# Altium integrated library diodo S1M.IntLib: 1 symbol
Pins are listed as number, name and electrical type; pins without a type are passive.

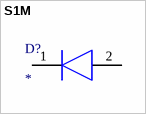
[diagram p0: symbol S1M]

## S1M
designator D?
Diode; Manufacturer_Name: ON Semiconductor; Manufacturer_Part_Number: S1M; Datasheet Link: https://componentsearchengine.com/Datasheets/2/S1M.pdf; Height: 2.7mm; Arrow Part Number: S1M; Arrow Price/Stock: https://www.arrow.com/en/products/s1m/on-semiconductor; Mouser Part Number: 512-S1M; Mouser Price/Stock: https://www.mouser.co.uk/ProductDetail/ON-Semiconductor-Fairchild/S1M?qs=RJwZ8kJo1mhFujnIpzoJdg%3D%3D
footprint DIOM5227X270N
pins: 1 K, 2 A